# Altium footprint library PicoBlade 12 pin.PcbLib: 1 footprints
Each footprint in its own frame and in the unit in brackets; x right, y up, seen from the top. Pads: shape width x height; smd on the part's side, far side on the other; paste and mask are expansions set on the pad; w line width, h text height; cw(c..) or ccw(c..) is an arc to the next point about the centre after c.
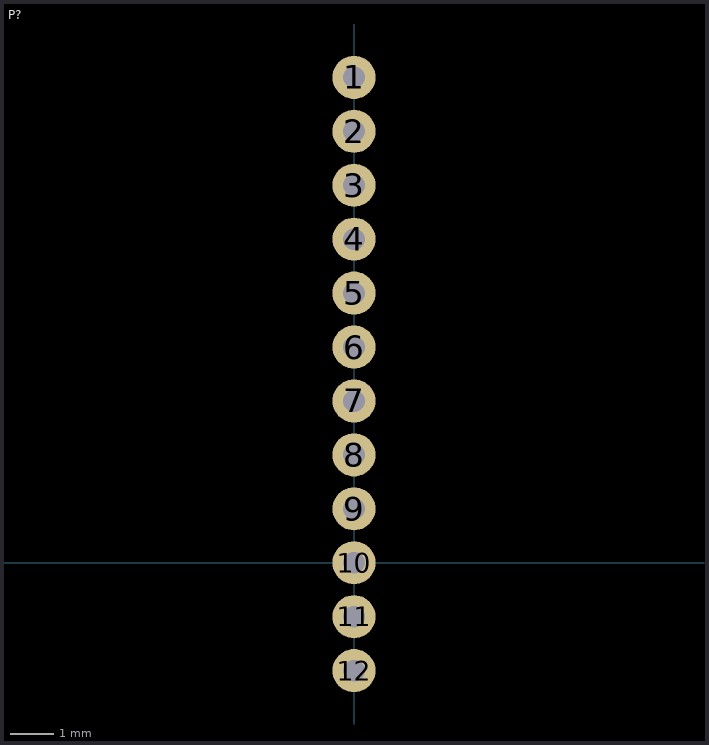
[diagram p0: the footprint, top view; thin cyan lines are the x and y axes]

## P? [mm] "PicoBlade connector RA 12 way"
pads (12):
  round 1 hole 0.5: 1(0,11.25) 2(0,10) 3(0,8.75) 4(0,7.5) 5(0,6.25) 6(0,5) 7(0,3.75) 8(0,2.5) 9(0,1.25) 10(0,0) 11(0,-1.25) 12(0,-2.5)
3D body "530481210.stp": height 3.5, standoff -2.3, extent -1.075,-4 4.425,12.75